# Altium footprint library GBOX_V2.PcbLib: 28 footprints (part 2 of 2)
Each footprint in its own frame and in the unit in brackets; x right, y up, seen from the top. Pads: shape width x height; smd on the part's side, far side on the other; paste and mask are expansions set on the pad; w line width, h text height; cw(c..) or ccw(c..) is an arc to the next point about the centre after c.
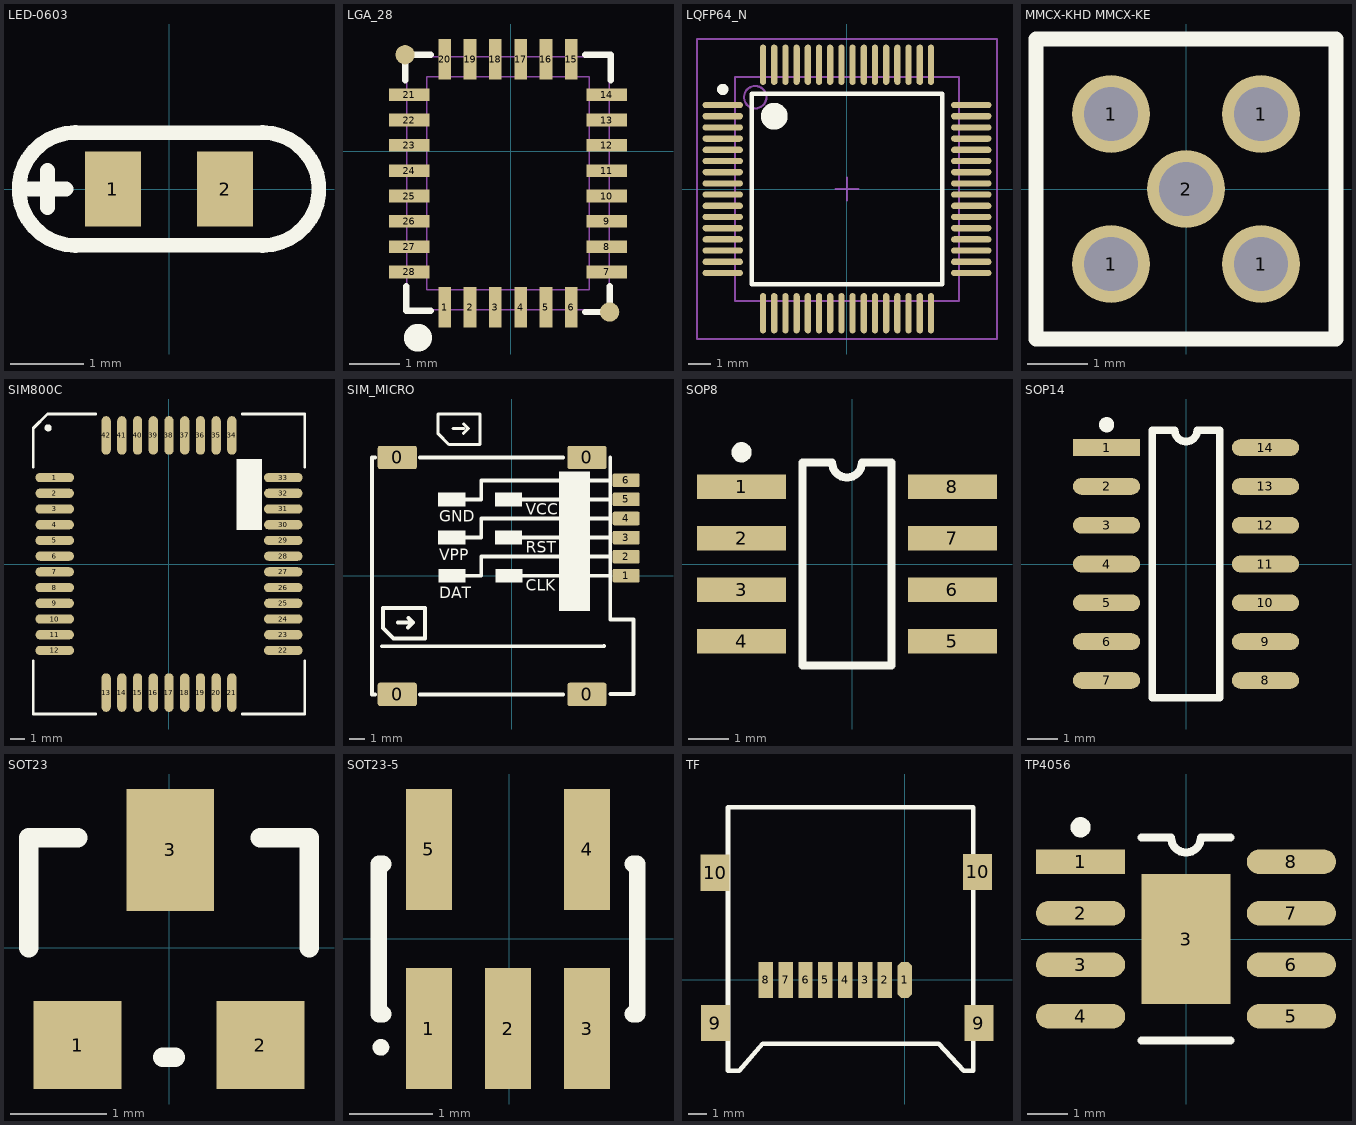
[diagram p1: the footprints below, top view; thin cyan lines are the x and y axes]

## LED-0603 [mil]
height 200
pads (2):
  rect 30x40 smd: 1(-30,0) 2(30,0)
Top Overlay:
  lines w7.87: -50,-30.14 cw(c-50,0) -50,30.14 ; -50,-30 50,-30 ; -50,30 50,30 ; 50,-30.14 ccw(c50,0) 50,30.14
  lines w8: -75,0 -55,0 ; -65,-10 -65,10
3D body "User Library-led_0603LED0603 green.STEP": height 23.62, standoff 0, extent -31.89,-15.75 31.9,15.75

## LGA_28 [mm] "LSM330DLC"
height 4
pads (30):
  rect 0.25x0.8 smd: 1(-1.301,-3.085) 2(-0.801,-3.085) 3(-0.301,-3.085) 4(0.199,-3.085) 5(0.699,-3.085) 6(1.199,-3.085) 15(1.199,1.815) 16(0.699,1.815) 17(0.199,1.815) 18(-0.301,1.815) 19(-0.801,1.815) 20(-1.301,1.815)
  rect 0.8x0.25 smd: 7(1.899,-2.385) 8(1.899,-1.885) 9(1.899,-1.385) 10(1.899,-0.885) 11(1.899,-0.385) 12(1.899,0.115) 13(1.899,0.615) 14(1.899,1.115) 21(-2.001,1.115) 22(-2.001,0.615) 23(-2.001,0.115) 24(-2.001,-0.385) 25(-2.001,-0.885) 26(-2.001,-1.385) 27(-2.001,-1.885) 28(-2.001,-2.385)
  round 0.381 smd: ""(-2.083,1.905) ""(1.956,-3.175)
Top Overlay:
  circle w0.5: c-1.829,-3.683 r0.025
  lines w0.127: -2.083,1.397 -2.083,1.905 -1.575,1.905 ; -2.057,-2.667 -2.057,-3.15 -1.575,-3.15 ; 1.473,-3.175 1.956,-3.175 1.956,-2.667 ; 1.473,1.905 1.981,1.905 1.981,1.397
Mechanical 15:
  lines w0.025: -2.051,-3.135 1.949,-3.135 1.949,1.865 -2.051,1.865 -2.051,-3.135 ; -1.651,-2.735 -1.651,1.465 1.549,1.465 1.549,-2.735 -1.651,-2.735

## LQFP64_N [mm]
pads (64):
  oval 1.8x0.279 smd: 1(-5.55,3.75) 2(-5.55,3.25) 3(-5.55,2.75) 4(-5.55,2.25) 5(-5.55,1.75) 6(-5.55,1.25) 7(-5.55,0.75) 8(-5.55,0.25) 9(-5.55,-0.25) 10(-5.55,-0.75) 11(-5.55,-1.25) 12(-5.55,-1.75) 13(-5.55,-2.25) 14(-5.55,-2.75) 15(-5.55,-3.25) 16(-5.55,-3.75) 33(5.55,-3.75) 34(5.55,-3.25) 35(5.55,-2.75) 36(5.55,-2.25) 37(5.55,-1.75) 38(5.55,-1.25) 39(5.55,-0.75) 40(5.55,-0.25) 41(5.55,0.25) 42(5.55,0.75) 43(5.55,1.25) 44(5.55,1.75) 45(5.55,2.25) 46(5.55,2.75) 47(5.55,3.25) 48(5.55,3.75)
  oval 0.279x1.8 smd: 17(-3.75,-5.55) 18(-3.25,-5.55) 19(-2.75,-5.55) 20(-2.25,-5.55) 21(-1.75,-5.55) 22(-1.25,-5.55) 23(-0.75,-5.55) 24(-0.25,-5.55) 25(0.25,-5.55) 26(0.75,-5.55) 27(1.25,-5.55) 28(1.75,-5.55) 29(2.25,-5.55) 30(2.75,-5.55) 31(3.25,-5.55) 32(3.75,-5.55) 49(3.75,5.55) 50(3.25,5.55) 51(2.75,5.55) 52(2.25,5.55) 53(1.75,5.55) 54(1.25,5.55) 55(0.75,5.55) 56(0.25,5.55) 57(-0.25,5.55) 58(-0.75,5.55) 59(-1.25,5.55) 60(-1.75,5.55) 61(-2.25,5.55) 62(-2.75,5.55) 63(-3.25,5.55) 64(-3.75,5.55)
Top Overlay:
  circle w0.25: c-5.55,4.45 r0.125
  circle w0.6: c-3.25,3.25 r0.3
  lines w0.2: -4.25,-4.25 -4.25,4.25 4.25,4.25 4.25,-4.25 -4.25,-4.25
Mechanical 13:
  circle w0.1: c-4.1,4.1 r0.5
  lines w0.1: -5,-5 -5,5 5,5 5,-5 -5,-5
Mechanical 15:
  lines w0.1: -0.5,0 0.5,0 ; 0,-0.5 0,0.5 ; -6.7,-6.7 -6.7,6.7 6.7,6.7 6.7,-6.7 -6.7,-6.7
3D body "User Library-LQFP64_Grid_0_5.STEP": height 1.6, standoff 0, extent -6,-6 6,6

## MMCX-KHD MMCX-KE [mm]
height 2.65
pads (5):
  round 1.3 hole 0.9: 1(-1.25,-1.25) 1(-1.25,1.25) 1(1.25,-1.25) 1(1.25,1.25) 2(0,0)
Top Overlay:
  lines w0.254: -2.5,-2.5 2.5,-2.5 2.5,2.5 -2.5,2.5 -2.5,-2.5
3D body "SW3dPS-mmcx pcb.STEP": height 4.63, standoff -2.73, extent -1.75,-1.75 1.75,1.75

## SIM800C [mm] "LCC, 42-Pins, Body 19.0x21.0mm (max), Pitch 1.10mm, IPC Medium Density"
height 2.3
pads (42):
  oval 2.7x0.65 smd: 1(-8,6.05) 2(-8,4.95) 3(-8,3.85) 4(-8,2.75) 5(-8,1.65) 6(-8,0.55) 7(-8,-0.55) 8(-8,-1.65) 9(-8,-2.75) 10(-8,-3.85) 11(-8,-4.95) 12(-8,-6.05) 22(8,-6.05) 23(8,-4.95) 24(8,-3.85) 25(8,-2.75) 26(8,-1.65) 27(8,-0.55) 28(8,0.55) 29(8,1.65) 30(8,2.75) 31(8,3.85) 32(8,4.95) 33(8,6.05)
  oval 0.65x2.7 smd: 13(-4.4,-9) 14(-3.3,-9) 15(-2.2,-9) 16(-1.1,-9) 17(0,-9) 18(1.1,-9) 19(2.2,-9) 20(3.3,-9) 21(4.4,-9) 34(4.4,9) 35(3.3,9) 36(2.2,9) 37(1.1,9) 38(0,9) 39(-1.1,9) 40(-2.2,9) 41(-3.3,9) 42(-4.4,9)
Top Overlay:
  circle w0.25: c-8.464,9.53 r0.125
  rectangle: 4.723,2.388 6.501,7.341
  lines w0.2: -9.5,-6.775 -9.5,-10.5 -5.125,-10.5 ; -9.5,6.775 -9.5,9.5 -8.5,10.5 -5.125,10.5 ; 5.125,-10.5 9.5,-10.5 9.5,-6.775 ; 5.125,10.5 9.5,10.5 9.5,6.775
Bottom Overlay:
  rectangle: 4.723,2.362 6.501,7.341
3D body "User Library-SIM800C-1.STEP": height 2.36, standoff 0.02, extent -7.874,-8.786 7.826,8.814

## SIM_MICRO [mm]
pads (10):
  rrect20% 2.61x1.56 smd: 0(-7.623,-7.89) 0(-7.623,7.89) 0(5.007,-7.89) 0(5.007,7.89)
  rrect20% 1.8x0.9 smd: 1(7.623,0.016) 2(7.623,1.286) 3(7.623,2.556) 4(7.623,3.826) 5(7.623,5.096) 6(7.623,6.366)
Top Overlay:
  region: -4.899,5.553 -4.899,4.639 -3.096,4.639 -3.096,5.553
  region: -4.899,3.013 -4.899,2.099 -3.096,2.099 -3.096,3.013
  region: -4.874,0.473 -4.874,-0.441 -3.07,-0.441 -3.07,0.473
  region: -1.089,0.473 -1.089,-0.441 0.714,-0.441 0.714,0.473
  region: -1.114,3.013 -1.114,2.099 0.689,2.099 0.689,3.013
  region: -1.114,5.553 -1.114,4.639 0.689,4.639 0.689,5.553
  region: 3.153,6.95 3.153,-2.321 5.21,-2.321 5.21,6.95
  lines w0.203: -3.909,9.82 -3.197,9.82 ; -3.223,9.49 -2.892,9.82 -3.197,10.125 ; -4.899,9.465 -4.188,8.754 -2.105,8.754 -2.105,10.786 -4.899,10.786 -4.899,9.465
  lines w0.254: -9.319,-7.89 -9.115,-7.89 ; -9.319,-7.865 -9.319,7.89 -9.115,7.89 ; -8.658,-4.683 6.143,-4.676 ; -7.591,-3.108 -6.88,-3.108 -6.575,-3.108 ; -6.906,-3.438 -6.575,-3.108 ; -6.88,-2.803 -6.575,-3.108 ; -6.118,-7.89 3.407,-7.89 ; -6.118,7.89 3.407,7.89 ; -4.188,0.016 -2.029,0.016 -2.029,1.286 6.556,1.286 ; -4.188,2.556 -2.029,2.556 -2.029,3.826 6.556,3.826 ; -4.188,5.096 -2.029,5.096 -2.029,6.366 6.531,6.366 ; 0.613,0.016 6.556,0.016 ; 0.613,2.556 6.556,2.556 ; 0.613,5.096 6.556,5.096 ; 6.556,7.89 6.556,-2.905 8.106,-2.905 8.106,-7.865 6.563,-7.865 ; -8.582,-3.464 -8.582,-2.143 -5.788,-2.143 -5.788,-4.175 -7.871,-4.175 -8.582,-3.464
  text "DAT" at -4.823,-1.483 h0.76
  text "VPP" at -4.823,1.057 h0.76
  text "GND" at -4.823,3.597 h0.76
  text "VCC" at 0.918,4.08 h0.76
  text "RST" at 0.918,1.54 h0.76
  text "CLK" at 0.918,-1 h0.76
3D body "User Library-Sim Holder.STEP": height 1.35, standoff 0, extent -9.159,-8.246 8.041,8.154

## SOP8 [mm]
pads (8):
  rect 2.2x0.6 smd: 1(-2.727,1.905) 2(-2.727,0.635) 3(-2.727,-0.635) 4(-2.727,-1.905) 5(2.473,-1.905) 6(2.473,-0.635) 7(2.473,0.635) 8(2.473,1.905)
Top Overlay:
  circle w0.25: c-2.727,2.755 r0.125
  lines w0.2: -1.227,-2.5 0.973,-2.5 0.973,2.5 0.24,2.5 cw(c-0.127,2.5) -0.494,2.5 -1.227,2.5 -1.227,-2.5
3D body "SO-8.STEP": height 1.7, standoff 0, extent -3.001,-2.451 2.999,2.45

## SOP14 [mm]
height 5.08
pads (14):
  rect 2.2x0.55 smd: 1(-2.6,3.81)
  oval 2.2x0.55 smd: 2(-2.6,2.54) 3(-2.6,1.27) 4(-2.6,0) 5(-2.6,-1.27) 6(-2.6,-2.54) 7(-2.6,-3.81) 8(2.6,-3.81) 9(2.6,-2.54) 10(2.6,-1.27) 11(2.6,0) 12(2.6,1.27) 13(2.6,2.54) 14(2.6,3.81)
Top Overlay:
  circle w0.25: c-2.6,4.558 r0.125
  lines w0.25: -1.1,-4.375 1.1,-4.375 1.1,4.375 0.367,4.375 cw(c0,4.375) -0.367,4.375 -1.1,4.375 -1.1,-4.375
3D body "SOP14.STEP": height 1.61, standoff 0, extent -3.1,-4.35 3.1,4.35

## SOT23 [mil]
pads (3):
  rect 36x36 smd: 1(-37.5,-40) 2(37.5,-40)
  rect 36x50 smd: 3(0.5,40)
Top Overlay:
  lines w8: -57.5,0 -57.5,45 -37.5,45 ; -2.5,-45 2.5,-45 ; 37.5,45 57.5,45 57.5,0
3D body "SW3DPS-SOT-23-DEFAULT1.step": height 41.65, standoff -1.65, extent -59.05,-49.21 59.06,49.21

## SOT23-5 [mm]
height 1
pads (5):
  rect 0.55x1.45 smd: 1(-0.966,-1.076) 2(-0.016,-1.076) 3(0.934,-1.076) 4(0.934,1.074) 5(-0.966,1.074)
Top Overlay:
  circle w0.1: c-1.541,-1.301 r0.05
  lines w0.2: -1.516,-0.901 -1.566,-0.901 -1.566,0.899 -1.516,0.899 ; 1.484,-0.901 1.534,-0.901 1.534,0.899 1.484,0.899

## TF [mm]
pads (12):
  oct 0.8x2 smd: 1(0,0)
  rect 0.8x2 smd: 2(-1.1,0) 3(-2.2,0) 4(-3.3,0) 5(-4.4,0) 6(-5.5,0) 7(-6.6,0) 8(-7.7,0)
  rect 1.6x2 smd: 9(-10.49,-2.388) 9(4.115,-2.388) 10(-10.516,5.944) 10(4.04,5.994)
Top Overlay:
  lines w0.254: -9.798,-5.028 -9.798,9.572 3.802,9.572 3.802,-5.028 3.271,-5.028 1.872,-3.528 -7.868,-3.528 -9.175,-5.028 -9.798,-5.028
3D body "693072010801.stp": height 1.77, standoff 0, extent -10.479,-3.877 4.121,9.823

## TP4056 [mm]
height 2.65
pads (9):
  rect 2.2x0.6 smd: 1(-2.6,1.905)
  oval 2.2x0.6 smd: 2(-2.6,0.635) 3(-2.6,-0.635) 4(-2.6,-1.905) 5(2.6,-1.905) 6(2.6,-0.635) 7(2.6,0.635) 8(2.6,1.905)
  rect 2.2x3.2 smd: 3(0,0)
Top Overlay:
  circle w0.25: c-2.6,2.755 r0.125
  lines w0.2: -1.1,-2.5 1.1,-2.5 ; -1.1,2.5 -0.367,2.5 ccw(c0,2.5) 0.367,2.5 1.1,2.5
3D body "SO-8.STEP": height 1.7, standoff 0, extent -3,-2.45 3,2.45